# EAGLE library part MOSFET_P_X2 (library my_devices)
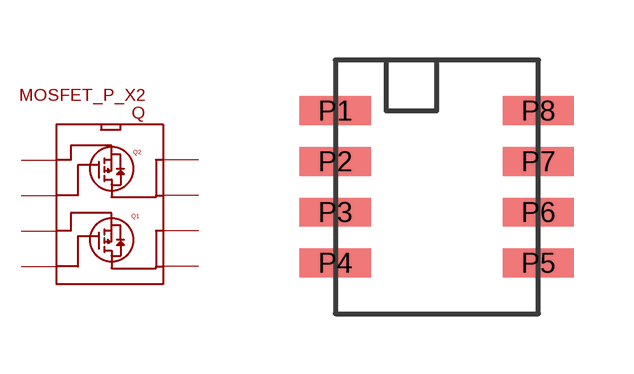
[diagram p17: symbol with the pads of SO-8; footprint SO-8]

Designator prefix Q

## MOSFET_P_X2  [SO-8]
P1  S2
P2  G2
P3  S1
P4  G1
P5  D11
P6  D12
P7  D21
P8  D22

## Footprint SO-8 (pad centres in mm)
smd 1.78 x 0.72: P1 -2.54,2.54; P2 -2.54,1.27; P3 -2.54,0; P4 -2.54,-1.27; P5 2.54,-1.27; P6 2.54,0; P7 2.54,1.27; P8 2.54,2.54